# Altium footprint library FH12-20S-0P5SH55.PcbLib: 1 footprints
Each footprint in its own frame and in the unit in brackets; x right, y up, seen from the top. Pads: shape width x height; smd on the part's side, far side on the other; paste and mask are expansions set on the pad; w line width, h text height; cw(c..) or ccw(c..) is an arc to the next point about the centre after c.
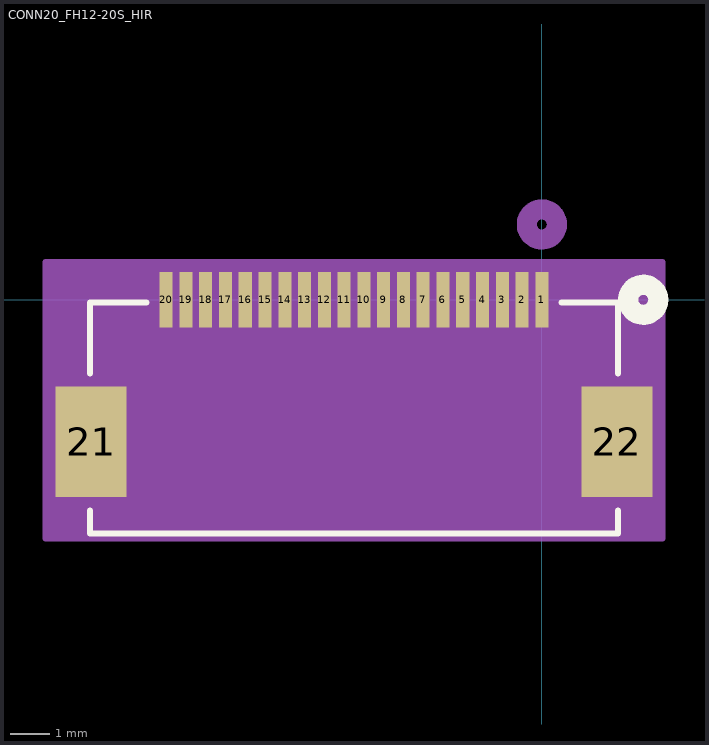
[diagram p0: the footprint, top view; thin cyan lines are the x and y axes]

## CONN20_FH12-20S_HIR [mil]
pads (22):
  rect 13x55 smd paste+0 mask+0: 1(0,0) 2(-19.69,0) 3(-39.38,0) 4(-59.07,0) 5(-78.76,0) 6(-98.45,0) 7(-118.14,0) 8(-137.83,0) 9(-157.52,0) 10(-177.21,0) 11(-196.9,0) 12(-216.59,0) 13(-236.28,0) 14(-255.97,0) 15(-275.66,0) 16(-295.35,0) 17(-315.04,0) 18(-334.73,0) 19(-354.42,0) 20(-374.11,0)
  rect 71x110 smd paste-55 mask-55: 21(-448.87,-141.57) 22(74.76,-141.57)
Top Overlay:
  circle w20: c100.94,0 r15
  lines w6: -450.06,-209.67 -450.06,-232.83 75.94,-232.83 75.94,-209.67 ; -450.06,-73.47 -450.06,-2.83 -393.71,-2.83 ; 19.6,-2.83 75.94,-2.83 75.94,-73.47
Bottom Overlay:
  circle w20: c100.94,0 r15
Mechanical 13:
  circle w20: c0,75 r15
  lines w1: -445.06,-227.83 70.94,-227.83 70.94,-7.83 -445.06,-7.83 -445.06,-227.83
Mechanical 15:
  region: 120.26,37.5 -494.37,37.5 -494.37,-237.83 120.26,-237.83
  lines w6: -494.37,-237.83 -494.37,37.5 120.26,37.5 120.26,-237.83 -494.37,-237.83
3D body "FH34SRJ-20S-0.5SH_50_.stp": height 43.31, standoff 0, extent -421.22,-136.66 51.22,-2.01